# EAGLE library part OPA340 (library myLib)
IC OPAMP GP R-R 5.5MHZ SGL 8SOIC
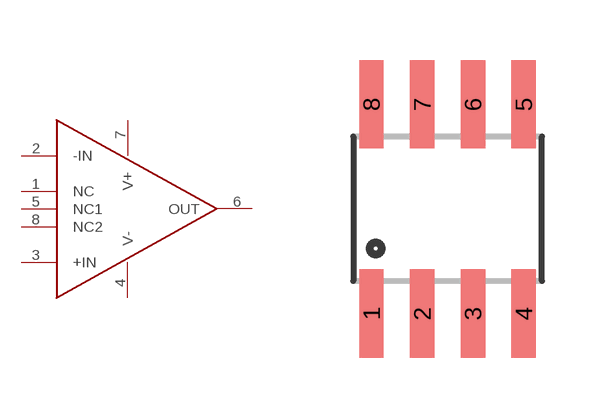
[diagram p19: symbol with the pads of SO08; footprint SO08]

Designator prefix -

## OPA340  [SO08]
1  NC
2  -IN
3  +IN
4  V-
5  NC1
6  OUT
7  V+
8  NC2

## Footprint SO08 (pad centres in mm)
Small Outline Package Fits JEDEC packages (narrow SOIC-8)
smd 0.61 x 2.21: 1 -1.905,-2.616; 2 -0.635,-2.616; 3 0.635,-2.616; 4 1.905,-2.616; 5 1.905,2.616; 6 0.635,2.616; 7 -0.635,2.616; 8 -1.905,2.616